# Altium footprint library 常用元件.PcbLib: 186 footprints (part 4 of 12)
Each footprint in its own frame and in the unit in brackets; x right, y up, seen from the top. Pads: shape width x height; smd on the part's side, far side on the other; paste and mask are expansions set on the pad; w line width, h text height; cw(c..) or ccw(c..) is an arc to the next point about the centre after c.
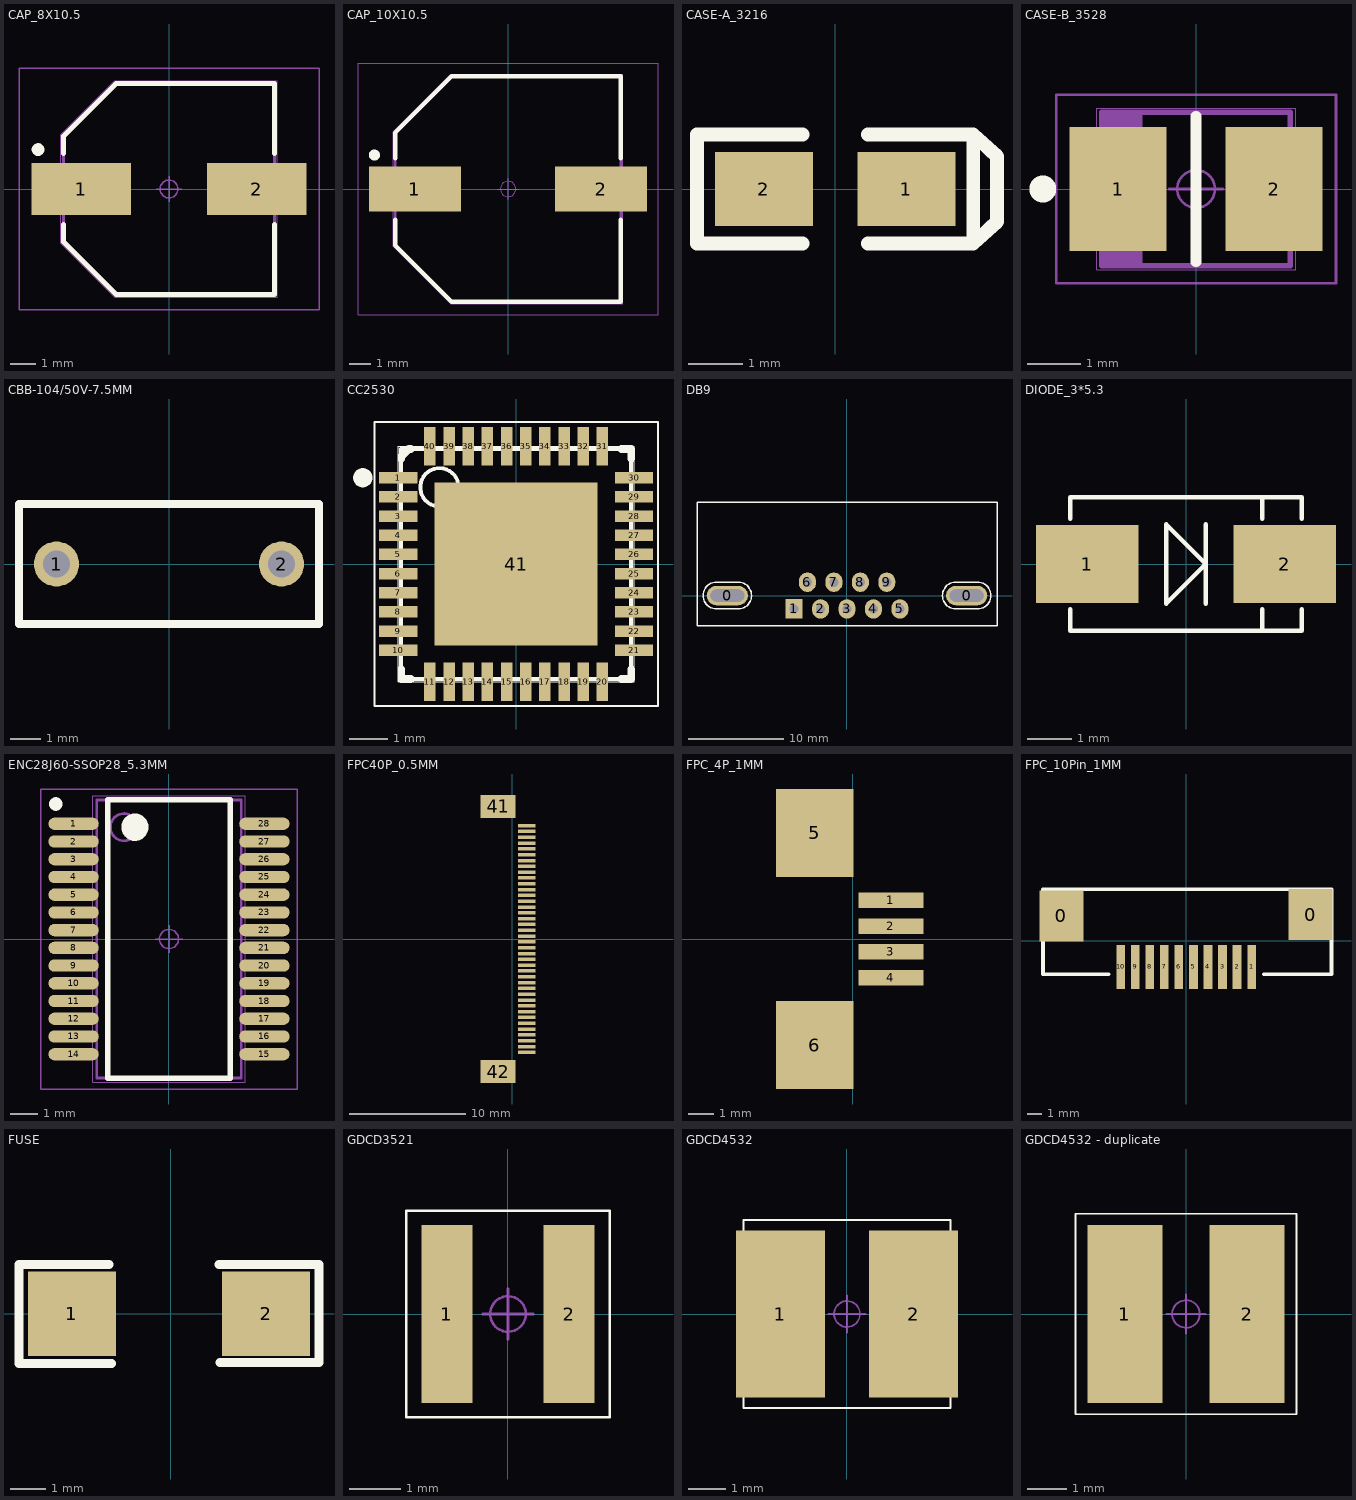
[diagram p3: the footprints below, top view; thin cyan lines are the x and y axes]

## CAP_8X10.5 [mm]
pads (2):
  rect 3.9x2.05 smd: 1(-3.45,0) 2(3.45,0)
Top Overlay:
  circle w0.25: c-5.15,1.55 r0.125
  lines w0.2: -4.15,-1.4 -4.15,-2.075 -2.075,-4.15 4.15,-4.15 4.15,-1.4 ; -4.15,1.4 -4.15,2.075 -2.075,4.15 4.15,4.15 4.15,1.4
Mechanical 1:
  lines w0.1: -4.15,-2.075 -2.075,-4.15 4.15,-4.15 4.15,4.15 -2.075,4.15 -4.15,2.075 -4.15,-2.075
  text "C1" at -0.537,-0.45 h0.75
Mechanical 16:
  circle w0.05: c0,0 r0.35
  lines w0.001: -4.25,-2.125 -2.125,-4.25 4.25,-4.25 4.25,4.25 -2.125,4.25 -4.25,2.125 -4.25,-2.125
  lines w0.05: -0.5,0 0.5,0 ; 0,-0.5 0,0.5 ; -5.9,-4.75 5.9,-4.75 5.9,4.75 -5.9,4.75 -5.9,-4.75

## CAP_10X10.5 [mm]
pads (2):
  rect 4.2x2.05 smd: 1(-4.25,0) 2(4.25,0)
Top Overlay:
  circle w0.25: c-6.1,1.55 r0.125
  lines w0.2: -5.15,-1.4 -5.15,-2.575 -2.575,-5.15 5.15,-5.15 5.15,-1.4 ; -5.15,1.4 -5.15,2.575 -2.575,5.15 5.15,5.15 5.15,1.4
Mechanical 1:
  lines w0.1: -5.15,-2.575 -5.15,2.575 -2.575,5.15 5.15,5.15 5.15,-5.15 -2.575,-5.15 -5.15,-2.575
  text "C1" at -0.537,-0.45 h0.75
Mechanical 16:
  circle w0.05: c0,0 r0.35
  lines w0.001: -5.25,-2.625 -5.25,2.625 -2.625,5.25 5.25,5.25 5.25,-5.25 -2.625,-5.25 -5.25,-2.625
  lines w0.05: -0.5,0 0.5,0 ; 0,-0.5 0,0.5 ; -6.85,-5.75 -6.85,5.75 6.85,5.75 6.85,-5.75 -6.85,-5.75

## CASE-A_3216 [mm] "钽电容"
pads (2):
  rect 1.8x1.35 smd: 1(1.31,0) 2(-1.31,0)
Top Overlay:
  lines w0.254: -0.6,-1.002 -2.537,-1.002 -2.537,1.002 -0.6,1.002 ; 0.6,-1.002 2.537,-1.002 ; 0.6,1.002 2.537,1.002 ; 2.537,-1.002 2.973,-0.6 2.973,0.6 2.537,1.002 ; 2.537,-1.002 2.537,1.002
3D body: height 1.71, standoff 0, extent -1.7,-0.84 1.7,0.84

## CASE-B_3528 [mm] "钽电容"
pads (2):
  rect 1.8x2.3 smd: 1(-1.45,0) 2(1.45,0)
Top Overlay:
  circle w0.25: c-2.85,0 r0.125
  lines w0.2: 0,-1.35 0,1.35
Mechanical 1:
  lines w0.1: -1.65,-1.425 -1.65,1.425 ; -1.55,-1.425 -1.55,1.425 ; -1.45,-1.425 -1.45,1.425 ; -1.35,-1.425 -1.35,1.425 ; -1.25,-1.425 -1.25,1.425 ; -1.15,-1.425 -1.15,1.425 ; -1.05,-1.425 -1.05,1.425 ; -1.75,-1.425 1.75,-1.425 1.75,1.425 -1.75,1.425 -1.75,-1.425
  text "C1" at -0.087,-0.45 h0.75
Mechanical 16:
  circle w0.05: c0,0 r0.35
  lines w0.001: -1.85,-1.5 1.85,-1.5 1.85,1.5 -1.85,1.5 -1.85,-1.5
  lines w0.05: -0.5,0 0.5,0 ; 0,-0.5 0,0.5 ; -2.6,-1.75 2.6,-1.75 2.6,1.75 -2.6,1.75 -2.6,-1.75

## CBB-104/50V-7.5MM [mm]
pads (2):
  round 1.5 hole 0.9: 1(-3.75,0) 2(3.75,0)
Top Overlay:
  lines w0.254: -5,-2 5,-2 5,2 -5,2 -5,-2

## CC2530 [mm]
pads (41):
  rect 1x0.3 smd: 1(-3.075,2.25) 2(-3.075,1.75) 3(-3.075,1.25) 4(-3.075,0.75) 5(-3.075,0.25) 6(-3.075,-0.25) 7(-3.075,-0.75) 8(-3.075,-1.25) 9(-3.075,-1.75) 10(-3.075,-2.25) 21(3.075,-2.25) 22(3.075,-1.75) 23(3.075,-1.25) 24(3.075,-0.75) 25(3.075,-0.25) 26(3.075,0.25) 27(3.075,0.75) 28(3.075,1.25) 29(3.075,1.75) 30(3.075,2.25)
  rect 0.3x1 smd: 11(-2.25,-3.075) 12(-1.75,-3.075) 13(-1.25,-3.075) 14(-0.75,-3.075) 15(-0.25,-3.075) 16(0.25,-3.075) 17(0.75,-3.075) 18(1.25,-3.075) 19(1.75,-3.075) 20(2.25,-3.075) 31(2.25,3.075) 32(1.75,3.075) 33(1.25,3.075) 34(0.75,3.075) 35(0.25,3.075) 36(-0.25,3.075) 37(-0.75,3.075) 38(-1.25,3.075) 39(-1.75,3.075) 40(-2.25,3.075)
  rect 4.25x4.25 smd: 41(0,0)
Top Overlay:
  circle w0.05: c0,0 r0.35
  circle w0.1: c-2,2 r0.5
  circle w0.25: c-4,2.25 r0.125
  lines w0.001: -3.075,-3.075 -3.075,3.075 3.075,3.075 3.075,-3.075 -3.075,-3.075
  lines w0.05: -0.5,0 0.5,0 ; 0,-0.5 0,0.5 ; -3.7,-3.7 -3.7,3.7 3.7,3.7 3.7,-3.7 -3.7,-3.7
  lines w0.1: -3,-3 -3,3 3,3 3,-3 -3,-3
  lines w0.2: -3,-2.75 -3,-3 -2.75,-3 ; -3,2.75 -3,2.8 -2.8,3 -2.75,3 ; 2.75,-3 3,-3 3,-2.75 ; 2.75,3 3,3 3,2.75
Mechanical 15:
  text "1" at 0.45,-0.164 h0.75

## DB9 [mil]
pads (11):
  oval 170x80 hole 50 slot 140 at 0 deg: 0(-493,0) 0(493,0)
  rect 70x80 hole 38: 1(-218,-55)
  oval 70x80 hole 38: 2(-109,-55) 3(0,-55) 4(109,-55) 5(218,-55) 6(-163,55) 7(-54,55) 8(55,55) 9(164,55)
Top Overlay:
  lines w6: -618,-125 -618,385 618,385 618,-125 -618,-125 ; -538,-55 cw(c-538,0) -538,55 -448,55 cw(c-448,0) -448,-55 -538,-55 ; 448,-55 cw(c448,0) 448,55 538,55 cw(c538,0) 538,-55 448,-55
3D body: height 502.95, standoff -161.42, extent -607.5,-136.12 605.49,584.35

## DIODE_3*5.3 [mm]
pads (2):
  rect 2.3x1.75 smd: 1(-2.222,0) 2(2.222,0)
Top Overlay:
  lines w0.1: -2.603,-1.016 -2.603,-1.5 2.603,-1.5 2.603,-1.016 ; -2.603,1.016 -2.603,1.5 2.603,1.5 2.603,1.016 ; 0.445,-0.889 0.445,0.889 ; 1.714,-1.5 1.714,-1.016 ; 1.714,1.016 1.714,1.5 ; -0.445,-0.889 -0.445,0.889 0.445,0 -0.445,-0.889

## ENC28J60-SSOP28_5.3MM [mm]
pads (28):
  oval 1.85x0.45 smd: 1(-3.5,4.225) 2(-3.5,3.575) 3(-3.5,2.925) 4(-3.5,2.275) 5(-3.5,1.625) 6(-3.5,0.975) 7(-3.5,0.325) 8(-3.5,-0.325) 9(-3.5,-0.975) 10(-3.5,-1.625) 11(-3.5,-2.275) 12(-3.5,-2.925) 13(-3.5,-3.575) 14(-3.5,-4.225) 15(3.5,-4.225) 16(3.5,-3.575) 17(3.5,-2.925) 18(3.5,-2.275) 19(3.5,-1.625) 20(3.5,-0.975) 21(3.5,-0.325) 22(3.5,0.325) 23(3.5,0.975) 24(3.5,1.625) 25(3.5,2.275) 26(3.5,2.925) 27(3.5,3.575) 28(3.5,4.225)
Top Overlay:
  circle w0.5: c-1.25,4.1 r0.25
  circle w0.25: c-4.15,4.95 r0.125
  lines w0.2: -2.25,-5.1 2.25,-5.1 2.25,5.1 -2.25,5.1 -2.25,-5.1
Mechanical 15:
  circle w0.1: c-1.65,4.1 r0.5
  lines w0.1: -2.65,-5.1 2.65,-5.1 2.65,5.1 -2.65,5.1 -2.65,-5.1
Mechanical 16:
  circle w0.05: c0,0 r0.35
  lines w0.001: -2.8,-5.25 2.8,-5.25 2.8,5.25 -2.8,5.25 -2.8,-5.25
  lines w0.05: -0.5,0 0.5,0 ; 0,-0.5 0,0.5 ; -4.7,-5.5 4.7,-5.5 4.7,5.5 -4.7,5.5 -4.7,-5.5
3D body: height 2.15, standoff 0, extent -3.802,-5.165 3.954,5.165

## FPC40P_0.5MM [mm]
pads (42):
  rect 1.5x0.3 smd: 1(1.225,9.75) 2(1.225,9.25) 3(1.225,8.75) 4(1.225,8.25) 5(1.225,7.75) 6(1.225,7.25) 7(1.225,6.75) 8(1.225,6.25) 9(1.225,5.75) 10(1.225,5.25) 11(1.225,4.75) 12(1.225,4.25) 13(1.225,3.75) 14(1.225,3.25) 15(1.225,2.75) 16(1.225,2.25) 17(1.225,1.75) 18(1.225,1.25) 19(1.225,0.75) 20(1.225,0.25) 21(1.225,-0.25) 22(1.225,-0.75) 23(1.225,-1.25) 24(1.225,-1.75) 25(1.225,-2.25) 26(1.225,-2.75) 27(1.225,-3.25) 28(1.225,-3.75) 29(1.225,-4.25) 30(1.225,-4.75) 31(1.225,-5.25) 32(1.225,-5.75) 33(1.225,-6.25) 34(1.225,-6.75) 35(1.225,-7.25) 36(1.225,-7.75) 37(1.225,-8.25) 38(1.225,-8.75) 39(1.225,-9.25) 40(1.225,-9.75)
  rect 3x2 smd: 41(-1.225,11.4) 42(-1.225,-11.4)

## FPC_4P_1MM [mm]
pads (6):
  rect 2.5x0.6 smd: 1(1.475,1.5) 2(1.475,0.5) 3(1.475,-0.5) 4(1.475,-1.5)
  rect 3x3.4 smd: 5(-1.475,4.1) 6(-1.475,-4.1)

## FPC_10Pin_1MM [mm]
pads (12):
  rect 3x3.5 smd: 0(-8.557,1.711) 0(8.557,1.795)
  rect 0.6x3 smd: 1(4.509,-1.795) 2(3.51,-1.795) 3(2.509,-1.795) 4(1.509,-1.795) 5(0.509,-1.795) 6(-0.49,-1.795) 7(-1.49,-1.795) 8(-2.491,-1.795) 9(-3.491,-1.795) 10(-4.491,-1.795)
Top Overlay:
  lines w0.254: -5.305,-2.303 -9.825,-2.303 -9.825,3.539 10.003,3.539 10.003,-2.303 5.356,-2.305

## FUSE [mm] "5A保险丝"
pads (2):
  rect 2.5x2.4 smd: 1(-2.8,0) 2(2.7,0)
Top Overlay:
  lines w0.254: -1.745,1.388 -4.3,1.388 -4.3,0.344 -4.3,-0.142 -4.3,-0.985 -4.3,-1.406 -3.458,-1.406 -1.684,-1.406 ; 1.364,1.388 2.761,1.388 2.984,1.388 4.2,1.388 4.2,-1.382 1.4,-1.382

## GDCD3521 [mm]
pads (2):
  rect 1x3.5 smd: 1(-1.2,0) 2(1.2,0)
Top Overlay:
  lines w0.05: -2,-2.028 -2,2.028 2,2.028 2,-2.028 -2,-2.028
Mechanical 16:
  circle w0.05: c0,0 r0.35
  lines w0.05: -0.5,0 0.5,0 ; 0,-0.5 0,0.5

## GDCD4532 [mm]
pads (2):
  rect 2.4x4.5 smd: 1(-1.8,0) 2(1.8,0)
Top Overlay:
  lines w0.05: -2.794,-2.54 2.794,-2.54 2.794,2.54 -2.794,2.54 -2.794,-2.54
Mechanical 16:
  circle w0.05: c0,0 r0.35
  lines w0.05: -0.5,0 0.5,0 ; 0,-0.5 0,0.5

## GDCD4532 - duplicate [mm]
pads (2):
  rect 1.9x4.5 smd: 1(-1.55,0) 2(1.55,0)
Top Overlay:
  lines w0.05: -2.794,-2.54 -2.794,2.54 2.794,2.54 2.794,-2.54 -2.794,-2.54
Mechanical 16:
  circle w0.05: c0,0 r0.35
  lines w0.05: -0.5,0 0.5,0 ; 0,-0.5 0,0.5